# Altium schematic symbol library Resistor - Chip - Uniohm.SchLib: 336 symbols (part 1 of 3)
Pins are listed as number, name and electrical type; pins without a type are passive.

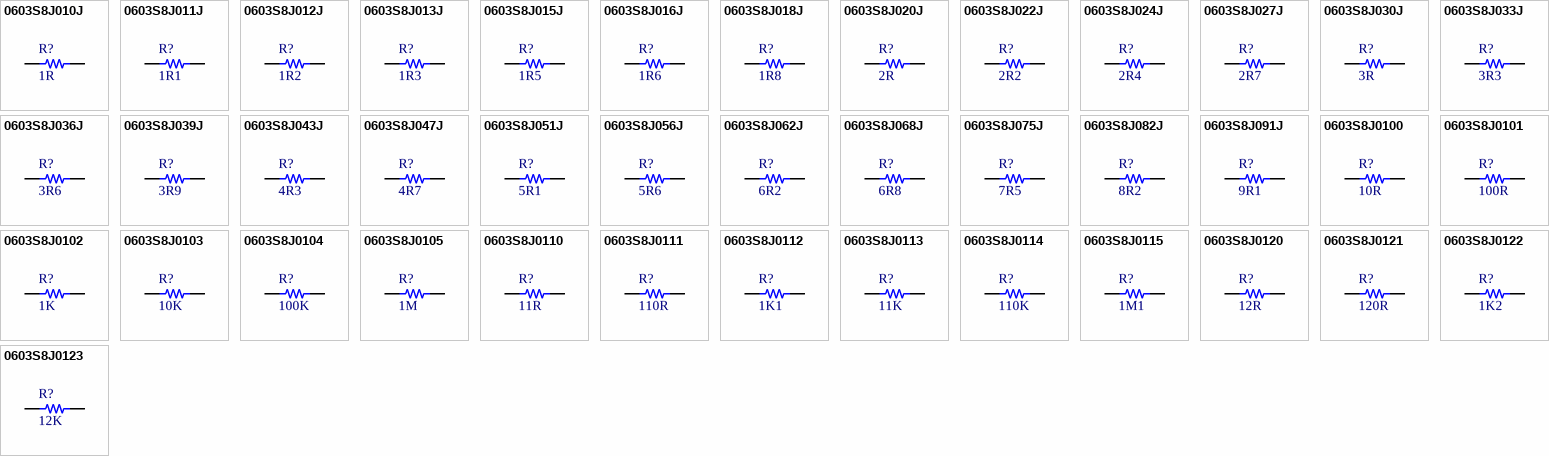
[diagram p0: symbols 0603S8J010J to 0603S8J0123]

## 0603S8J010J
designator R?, comment 1R
RES SMD 1R OHM 5% 1/8W 0603; Part Number: 0603S8J010J; Manufacturer: Uniohm; TemperatureRange: -55C ~ 155C; TemperatureCoefficient: 100ppm/C; PowerRating: 0.125W, 1/8W; Value: 1R; Tolerance: 5%; Price: 0.0089; Device Package: 1608 (0603 Metric)
footprint RES 0603/1608 (Chip Resistor, 2-Leads, Body 1.60x0.80mm, IPC Medium Density)
pins: 1, 2

## 0603S8J011J
designator R?, comment 1R1
RES SMD 1R1 OHM 5% 1/8W 0603; Part Number: 0603S8J011J; Manufacturer: Uniohm; TemperatureRange: -55C ~ 155C; TemperatureCoefficient: 100ppm/C; PowerRating: 0.125W, 1/8W; Value: 1R1; Tolerance: 5%; Price: 0.0089; Device Package: 1608 (0603 Metric)
footprint RES 0603/1608 (Chip Resistor, 2-Leads, Body 1.60x0.80mm, IPC Medium Density)
pins: 1, 2

## 0603S8J012J
designator R?, comment 1R2
RES SMD 1R2 OHM 5% 1/8W 0603; Part Number: 0603S8J012J; Manufacturer: Uniohm; TemperatureRange: -55C ~ 155C; TemperatureCoefficient: 100ppm/C; PowerRating: 0.125W, 1/8W; Value: 1R2; Tolerance: 5%; Price: 0.0089; Device Package: 1608 (0603 Metric)
footprint RES 0603/1608 (Chip Resistor, 2-Leads, Body 1.60x0.80mm, IPC Medium Density)
pins: 1, 2

## 0603S8J013J
designator R?, comment 1R3
RES SMD 1R3 OHM 5% 1/8W 0603; Part Number: 0603S8J013J; Manufacturer: Uniohm; TemperatureRange: -55C ~ 155C; TemperatureCoefficient: 100ppm/C; PowerRating: 0.125W, 1/8W; Value: 1R3; Tolerance: 5%; Price: 0.0089; Device Package: 1608 (0603 Metric)
footprint RES 0603/1608 (Chip Resistor, 2-Leads, Body 1.60x0.80mm, IPC Medium Density)
pins: 1, 2

## 0603S8J015J
designator R?, comment 1R5
RES SMD 1R5 OHM 5% 1/8W 0603; Part Number: 0603S8J015J; Manufacturer: Uniohm; TemperatureRange: -55C ~ 155C; TemperatureCoefficient: 100ppm/C; PowerRating: 0.125W, 1/8W; Value: 1R5; Tolerance: 5%; Price: 0.0089; Device Package: 1608 (0603 Metric)
footprint RES 0603/1608 (Chip Resistor, 2-Leads, Body 1.60x0.80mm, IPC Medium Density)
pins: 1, 2

## 0603S8J016J
designator R?, comment 1R6
RES SMD 1R6 OHM 5% 1/8W 0603; Part Number: 0603S8J016J; Manufacturer: Uniohm; TemperatureRange: -55C ~ 155C; TemperatureCoefficient: 100ppm/C; PowerRating: 0.125W, 1/8W; Value: 1R6; Tolerance: 5%; Price: 0.0089; Device Package: 1608 (0603 Metric)
footprint RES 0603/1608 (Chip Resistor, 2-Leads, Body 1.60x0.80mm, IPC Medium Density)
pins: 1, 2

## 0603S8J018J
designator R?, comment 1R8
RES SMD 1R8 OHM 5% 1/8W 0603; Part Number: 0603S8J018J; Manufacturer: Uniohm; TemperatureRange: -55C ~ 155C; TemperatureCoefficient: 100ppm/C; PowerRating: 0.125W, 1/8W; Value: 1R8; Tolerance: 5%; Price: 0.0089; Device Package: 1608 (0603 Metric)
footprint RES 0603/1608 (Chip Resistor, 2-Leads, Body 1.60x0.80mm, IPC Medium Density)
pins: 1, 2

## 0603S8J020J
designator R?, comment 2R
RES SMD 2R OHM 5% 1/8W 0603; Part Number: 0603S8J020J; Manufacturer: Uniohm; TemperatureRange: -55C ~ 155C; TemperatureCoefficient: 100ppm/C; PowerRating: 0.125W, 1/8W; Value: 2R; Tolerance: 5%; Price: 0.0089; Device Package: 1608 (0603 Metric)
footprint RES 0603/1608 (Chip Resistor, 2-Leads, Body 1.60x0.80mm, IPC Medium Density)
pins: 1, 2

## 0603S8J022J
designator R?, comment 2R2
RES SMD 2R2 OHM 5% 1/8W 0603; Part Number: 0603S8J022J; Manufacturer: Uniohm; TemperatureRange: -55C ~ 155C; TemperatureCoefficient: 100ppm/C; PowerRating: 0.125W, 1/8W; Value: 2R2; Tolerance: 5%; Price: 0.0089; Device Package: 1608 (0603 Metric)
footprint RES 0603/1608 (Chip Resistor, 2-Leads, Body 1.60x0.80mm, IPC Medium Density)
pins: 1, 2

## 0603S8J024J
designator R?, comment 2R4
RES SMD 2R4 OHM 5% 1/8W 0603; Part Number: 0603S8J024J; Manufacturer: Uniohm; TemperatureRange: -55C ~ 155C; TemperatureCoefficient: 100ppm/C; PowerRating: 0.125W, 1/8W; Value: 2R4; Tolerance: 5%; Price: 0.0089; Device Package: 1608 (0603 Metric)
footprint RES 0603/1608 (Chip Resistor, 2-Leads, Body 1.60x0.80mm, IPC Medium Density)
pins: 1, 2

## 0603S8J027J
designator R?, comment 2R7
RES SMD 2R7 OHM 5% 1/8W 0603; Part Number: 0603S8J027J; Manufacturer: Uniohm; TemperatureRange: -55C ~ 155C; TemperatureCoefficient: 100ppm/C; PowerRating: 0.125W, 1/8W; Value: 2R7; Tolerance: 5%; Price: 0.0089; Device Package: 1608 (0603 Metric)
footprint RES 0603/1608 (Chip Resistor, 2-Leads, Body 1.60x0.80mm, IPC Medium Density)
pins: 1, 2

## 0603S8J030J
designator R?, comment 3R
RES SMD 3R OHM 5% 1/8W 0603; Part Number: 0603S8J030J; Manufacturer: Uniohm; TemperatureRange: -55C ~ 155C; TemperatureCoefficient: 100ppm/C; PowerRating: 0.125W, 1/8W; Value: 3R; Tolerance: 5%; Price: 0.0089; Device Package: 1608 (0603 Metric)
footprint RES 0603/1608 (Chip Resistor, 2-Leads, Body 1.60x0.80mm, IPC Medium Density)
pins: 1, 2

## 0603S8J033J
designator R?, comment 3R3
RES SMD 3R3 OHM 5% 1/8W 0603; Part Number: 0603S8J033J; Manufacturer: Uniohm; TemperatureRange: -55C ~ 155C; TemperatureCoefficient: 100ppm/C; PowerRating: 0.125W, 1/8W; Value: 3R3; Tolerance: 5%; Price: 0.0089; Device Package: 1608 (0603 Metric)
footprint RES 0603/1608 (Chip Resistor, 2-Leads, Body 1.60x0.80mm, IPC Medium Density)
pins: 1, 2

## 0603S8J036J
designator R?, comment 3R6
RES SMD 3R6 OHM 5% 1/8W 0603; Part Number: 0603S8J036J; Manufacturer: Uniohm; TemperatureRange: -55C ~ 155C; TemperatureCoefficient: 100ppm/C; PowerRating: 0.125W, 1/8W; Value: 3R6; Tolerance: 5%; Price: 0.0089; Device Package: 1608 (0603 Metric)
footprint RES 0603/1608 (Chip Resistor, 2-Leads, Body 1.60x0.80mm, IPC Medium Density)
pins: 1, 2

## 0603S8J039J
designator R?, comment 3R9
RES SMD 3R9 OHM 5% 1/8W 0603; Part Number: 0603S8J039J; Manufacturer: Uniohm; TemperatureRange: -55C ~ 155C; TemperatureCoefficient: 100ppm/C; PowerRating: 0.125W, 1/8W; Value: 3R9; Tolerance: 5%; Price: 0.0089; Device Package: 1608 (0603 Metric)
footprint RES 0603/1608 (Chip Resistor, 2-Leads, Body 1.60x0.80mm, IPC Medium Density)
pins: 1, 2

## 0603S8J043J
designator R?, comment 4R3
RES SMD 4R3 OHM 5% 1/8W 0603; Part Number: 0603S8J043J; Manufacturer: Uniohm; TemperatureRange: -55C ~ 155C; TemperatureCoefficient: 100ppm/C; PowerRating: 0.125W, 1/8W; Value: 4R3; Tolerance: 5%; Price: 0.0089; Device Package: 1608 (0603 Metric)
footprint RES 0603/1608 (Chip Resistor, 2-Leads, Body 1.60x0.80mm, IPC Medium Density)
pins: 1, 2

## 0603S8J047J
designator R?, comment 4R7
RES SMD 4R7 OHM 5% 1/8W 0603; Part Number: 0603S8J047J; Manufacturer: Uniohm; TemperatureRange: -55C ~ 155C; TemperatureCoefficient: 100ppm/C; PowerRating: 0.125W, 1/8W; Value: 4R7; Tolerance: 5%; Price: 0.0089; Device Package: 1608 (0603 Metric)
footprint RES 0603/1608 (Chip Resistor, 2-Leads, Body 1.60x0.80mm, IPC Medium Density)
pins: 1, 2

## 0603S8J051J
designator R?, comment 5R1
RES SMD 5R1 OHM 5% 1/8W 0603; Part Number: 0603S8J051J; Manufacturer: Uniohm; TemperatureRange: -55C ~ 155C; TemperatureCoefficient: 100ppm/C; PowerRating: 0.125W, 1/8W; Value: 5R1; Tolerance: 5%; Price: 0.0089; Device Package: 1608 (0603 Metric)
footprint RES 0603/1608 (Chip Resistor, 2-Leads, Body 1.60x0.80mm, IPC Medium Density)
pins: 1, 2

## 0603S8J056J
designator R?, comment 5R6
RES SMD 5R6 OHM 5% 1/8W 0603; Part Number: 0603S8J056J; Manufacturer: Uniohm; TemperatureRange: -55C ~ 155C; TemperatureCoefficient: 100ppm/C; PowerRating: 0.125W, 1/8W; Value: 5R6; Tolerance: 5%; Price: 0.0089; Device Package: 1608 (0603 Metric)
footprint RES 0603/1608 (Chip Resistor, 2-Leads, Body 1.60x0.80mm, IPC Medium Density)
pins: 1, 2

## 0603S8J062J
designator R?, comment 6R2
RES SMD 6R2 OHM 5% 1/8W 0603; Part Number: 0603S8J062J; Manufacturer: Uniohm; TemperatureRange: -55C ~ 155C; TemperatureCoefficient: 100ppm/C; PowerRating: 0.125W, 1/8W; Value: 6R2; Tolerance: 5%; Price: 0.0089; Device Package: 1608 (0603 Metric)
footprint RES 0603/1608 (Chip Resistor, 2-Leads, Body 1.60x0.80mm, IPC Medium Density)
pins: 1, 2

## 0603S8J068J
designator R?, comment 6R8
RES SMD 6R8 OHM 5% 1/8W 0603; Part Number: 0603S8J068J; Manufacturer: Uniohm; TemperatureRange: -55C ~ 155C; TemperatureCoefficient: 100ppm/C; PowerRating: 0.125W, 1/8W; Value: 6R8; Tolerance: 5%; Price: 0.0089; Device Package: 1608 (0603 Metric)
footprint RES 0603/1608 (Chip Resistor, 2-Leads, Body 1.60x0.80mm, IPC Medium Density)
pins: 1, 2

## 0603S8J075J
designator R?, comment 7R5
RES SMD 7R5 OHM 5% 1/8W 0603; Part Number: 0603S8J075J; Manufacturer: Uniohm; TemperatureRange: -55C ~ 155C; TemperatureCoefficient: 100ppm/C; PowerRating: 0.125W, 1/8W; Value: 7R5; Tolerance: 5%; Price: 0.0089; Device Package: 1608 (0603 Metric)
footprint RES 0603/1608 (Chip Resistor, 2-Leads, Body 1.60x0.80mm, IPC Medium Density)
pins: 1, 2

## 0603S8J082J
designator R?, comment 8R2
RES SMD 8R2 OHM 5% 1/8W 0603; Part Number: 0603S8J082J; Manufacturer: Uniohm; TemperatureRange: -55C ~ 155C; TemperatureCoefficient: 100ppm/C; PowerRating: 0.125W, 1/8W; Value: 8R2; Tolerance: 5%; Price: 0.0089; Device Package: 1608 (0603 Metric)
footprint RES 0603/1608 (Chip Resistor, 2-Leads, Body 1.60x0.80mm, IPC Medium Density)
pins: 1, 2

## 0603S8J091J
designator R?, comment 9R1
RES SMD 9R1 OHM 5% 1/8W 0603; Part Number: 0603S8J091J; Manufacturer: Uniohm; TemperatureRange: -55C ~ 155C; TemperatureCoefficient: 100ppm/C; PowerRating: 0.125W, 1/8W; Value: 9R1; Tolerance: 5%; Price: 0.0089; Device Package: 1608 (0603 Metric)
footprint RES 0603/1608 (Chip Resistor, 2-Leads, Body 1.60x0.80mm, IPC Medium Density)
pins: 1, 2

## 0603S8J0100
designator R?, comment 10R
RES SMD 10R OHM 5% 1/8W 0603; Part Number: 0603S8J0100; Manufacturer: Uniohm; TemperatureRange: -55C ~ 155C; TemperatureCoefficient: 100ppm/C; PowerRating: 0.125W, 1/8W; Value: 10R; Tolerance: 5%; Price: 0.0089; Device Package: 1608 (0603 Metric)
footprint RES 0603/1608 (Chip Resistor, 2-Leads, Body 1.60x0.80mm, IPC Medium Density)
pins: 1, 2

## 0603S8J0101
designator R?, comment 100R
RES SMD 100R OHM 5% 1/8W 0603; Part Number: 0603S8J0101; Manufacturer: Uniohm; TemperatureRange: -55C ~ 155C; TemperatureCoefficient: 100ppm/C; PowerRating: 0.125W, 1/8W; Value: 100R; Tolerance: 5%; Price: 0.0089; Device Package: 1608 (0603 Metric)
footprint RES 0603/1608 (Chip Resistor, 2-Leads, Body 1.60x0.80mm, IPC Medium Density)
pins: 1, 2

## 0603S8J0102
designator R?, comment 1K
RES SMD 1K OHM 5% 1/8W 0603; Part Number: 0603S8J0102; Manufacturer: Uniohm; TemperatureRange: -55C ~ 155C; TemperatureCoefficient: 100ppm/C; PowerRating: 0.125W, 1/8W; Value: 1K; Tolerance: 5%; Price: 0.0089; Device Package: 1608 (0603 Metric)
footprint RES 0603/1608 (Chip Resistor, 2-Leads, Body 1.60x0.80mm, IPC Medium Density)
pins: 1, 2

## 0603S8J0103
designator R?, comment 10K
RES SMD 10K OHM 5% 1/8W 0603; Part Number: 0603S8J0103; Manufacturer: Uniohm; TemperatureRange: -55C ~ 155C; TemperatureCoefficient: 100ppm/C; PowerRating: 0.125W, 1/8W; Value: 10K; Tolerance: 5%; Price: 0.0089; Device Package: 1608 (0603 Metric)
footprint RES 0603/1608 (Chip Resistor, 2-Leads, Body 1.60x0.80mm, IPC Medium Density)
pins: 1, 2

## 0603S8J0104
designator R?, comment 100K
RES SMD 100K OHM 5% 1/8W 0603; Part Number: 0603S8J0104; Manufacturer: Uniohm; TemperatureRange: -55C ~ 155C; TemperatureCoefficient: 100ppm/C; PowerRating: 0.125W, 1/8W; Value: 100K; Tolerance: 5%; Price: 0.0089; Device Package: 1608 (0603 Metric)
footprint RES 0603/1608 (Chip Resistor, 2-Leads, Body 1.60x0.80mm, IPC Medium Density)
pins: 1, 2

## 0603S8J0105
designator R?, comment 1M
RES SMD 1M OHM 5% 1/8W 0603; Part Number: 0603S8J0105; Manufacturer: Uniohm; TemperatureRange: -55C ~ 155C; TemperatureCoefficient: 100ppm/C; PowerRating: 0.125W, 1/8W; Value: 1M; Tolerance: 5%; Price: 0.0089; Device Package: 1608 (0603 Metric)
footprint RES 0603/1608 (Chip Resistor, 2-Leads, Body 1.60x0.80mm, IPC Medium Density)
pins: 1, 2

## 0603S8J0110
designator R?, comment 11R
RES SMD 11R OHM 5% 1/8W 0603; Part Number: 0603S8J0110; Manufacturer: Uniohm; TemperatureRange: -55C ~ 155C; TemperatureCoefficient: 100ppm/C; PowerRating: 0.125W, 1/8W; Value: 11R; Tolerance: 5%; Price: 0.0089; Device Package: 1608 (0603 Metric)
footprint RES 0603/1608 (Chip Resistor, 2-Leads, Body 1.60x0.80mm, IPC Medium Density)
pins: 1, 2

## 0603S8J0111
designator R?, comment 110R
RES SMD 110R OHM 5% 1/8W 0603; Part Number: 0603S8J0111; Manufacturer: Uniohm; TemperatureRange: -55C ~ 155C; TemperatureCoefficient: 100ppm/C; PowerRating: 0.125W, 1/8W; Value: 110R; Tolerance: 5%; Price: 0.0089; Device Package: 1608 (0603 Metric)
footprint RES 0603/1608 (Chip Resistor, 2-Leads, Body 1.60x0.80mm, IPC Medium Density)
pins: 1, 2

## 0603S8J0112
designator R?, comment 1K1
RES SMD 1K1 OHM 5% 1/8W 0603; Part Number: 0603S8J0112; Manufacturer: Uniohm; TemperatureRange: -55C ~ 155C; TemperatureCoefficient: 100ppm/C; PowerRating: 0.125W, 1/8W; Value: 1K1; Tolerance: 5%; Price: 0.0089; Device Package: 1608 (0603 Metric)
footprint RES 0603/1608 (Chip Resistor, 2-Leads, Body 1.60x0.80mm, IPC Medium Density)
pins: 1, 2

## 0603S8J0113
designator R?, comment 11K
RES SMD 11K OHM 5% 1/8W 0603; Part Number: 0603S8J0113; Manufacturer: Uniohm; TemperatureRange: -55C ~ 155C; TemperatureCoefficient: 100ppm/C; PowerRating: 0.125W, 1/8W; Value: 11K; Tolerance: 5%; Price: 0.0089; Device Package: 1608 (0603 Metric)
footprint RES 0603/1608 (Chip Resistor, 2-Leads, Body 1.60x0.80mm, IPC Medium Density)
pins: 1, 2

## 0603S8J0114
designator R?, comment 110K
RES SMD 110K OHM 5% 1/8W 0603; Part Number: 0603S8J0114; Manufacturer: Uniohm; TemperatureRange: -55C ~ 155C; TemperatureCoefficient: 100ppm/C; PowerRating: 0.125W, 1/8W; Value: 110K; Tolerance: 5%; Price: 0.0089; Device Package: 1608 (0603 Metric)
footprint RES 0603/1608 (Chip Resistor, 2-Leads, Body 1.60x0.80mm, IPC Medium Density)
pins: 1, 2

## 0603S8J0115
designator R?, comment 1M1
RES SMD 1M1 OHM 5% 1/8W 0603; Part Number: 0603S8J0115; Manufacturer: Uniohm; TemperatureRange: -55C ~ 155C; TemperatureCoefficient: 100ppm/C; PowerRating: 0.125W, 1/8W; Value: 1M1; Tolerance: 5%; Price: 0.0089; Device Package: 1608 (0603 Metric)
footprint RES 0603/1608 (Chip Resistor, 2-Leads, Body 1.60x0.80mm, IPC Medium Density)
pins: 1, 2

## 0603S8J0120
designator R?, comment 12R
RES SMD 12R OHM 5% 1/8W 0603; Part Number: 0603S8J0120; Manufacturer: Uniohm; TemperatureRange: -55C ~ 155C; TemperatureCoefficient: 100ppm/C; PowerRating: 0.125W, 1/8W; Value: 12R; Tolerance: 5%; Price: 0.0089; Device Package: 1608 (0603 Metric)
footprint RES 0603/1608 (Chip Resistor, 2-Leads, Body 1.60x0.80mm, IPC Medium Density)
pins: 1, 2

## 0603S8J0121
designator R?, comment 120R
RES SMD 120R OHM 5% 1/8W 0603; Part Number: 0603S8J0121; Manufacturer: Uniohm; TemperatureRange: -55C ~ 155C; TemperatureCoefficient: 100ppm/C; PowerRating: 0.125W, 1/8W; Value: 120R; Tolerance: 5%; Price: 0.0089; Device Package: 1608 (0603 Metric)
footprint RES 0603/1608 (Chip Resistor, 2-Leads, Body 1.60x0.80mm, IPC Medium Density)
pins: 1, 2

## 0603S8J0122
designator R?, comment 1K2
RES SMD 1K2 OHM 5% 1/8W 0603; Part Number: 0603S8J0122; Manufacturer: Uniohm; TemperatureRange: -55C ~ 155C; TemperatureCoefficient: 100ppm/C; PowerRating: 0.125W, 1/8W; Value: 1K2; Tolerance: 5%; Price: 0.0089; Device Package: 1608 (0603 Metric)
footprint RES 0603/1608 (Chip Resistor, 2-Leads, Body 1.60x0.80mm, IPC Medium Density)
pins: 1, 2

## 0603S8J0123
designator R?, comment 12K
RES SMD 12K OHM 5% 1/8W 0603; Part Number: 0603S8J0123; Manufacturer: Uniohm; TemperatureRange: -55C ~ 155C; TemperatureCoefficient: 100ppm/C; PowerRating: 0.125W, 1/8W; Value: 12K; Tolerance: 5%; Price: 0.0089; Device Package: 1608 (0603 Metric)
footprint RES 0603/1608 (Chip Resistor, 2-Leads, Body 1.60x0.80mm, IPC Medium Density)
pins: 1, 2

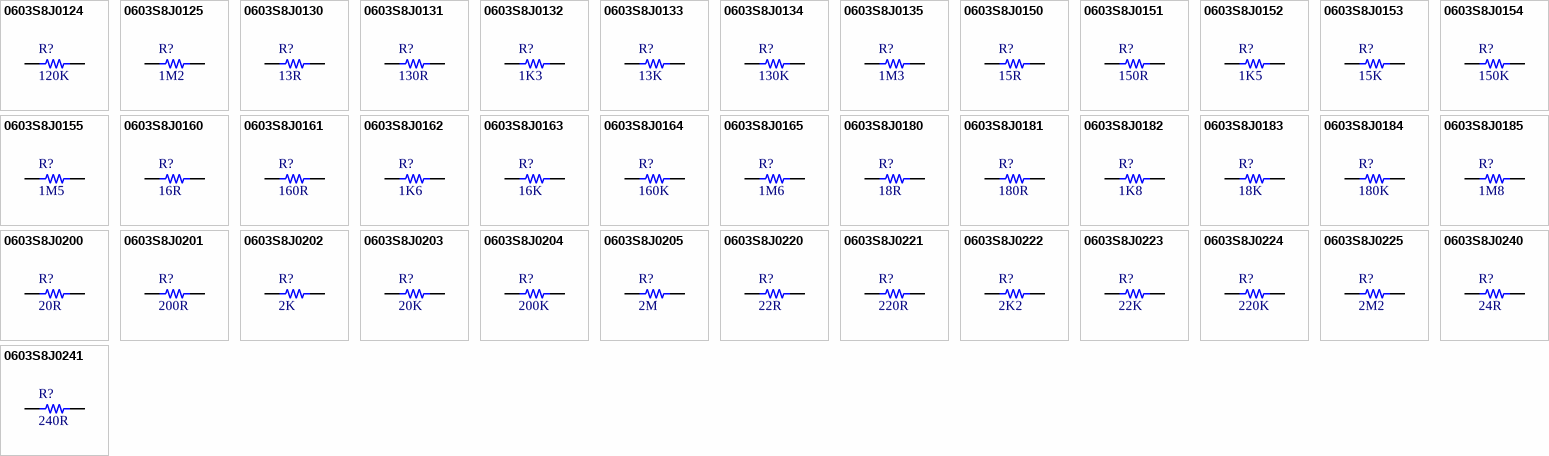
[diagram p1: symbols 0603S8J0124 to 0603S8J0241]

## 0603S8J0124
designator R?, comment 120K
RES SMD 120K OHM 5% 1/8W 0603; Part Number: 0603S8J0124; Manufacturer: Uniohm; TemperatureRange: -55C ~ 155C; TemperatureCoefficient: 100ppm/C; PowerRating: 0.125W, 1/8W; Value: 120K; Tolerance: 5%; Price: 0.0089; Device Package: 1608 (0603 Metric)
footprint RES 0603/1608 (Chip Resistor, 2-Leads, Body 1.60x0.80mm, IPC Medium Density)
pins: 1, 2

## 0603S8J0125
designator R?, comment 1M2
RES SMD 1M2 OHM 5% 1/8W 0603; Part Number: 0603S8J0125; Manufacturer: Uniohm; TemperatureRange: -55C ~ 155C; TemperatureCoefficient: 100ppm/C; PowerRating: 0.125W, 1/8W; Value: 1M2; Tolerance: 5%; Price: 0.0089; Device Package: 1608 (0603 Metric)
footprint RES 0603/1608 (Chip Resistor, 2-Leads, Body 1.60x0.80mm, IPC Medium Density)
pins: 1, 2

## 0603S8J0130
designator R?, comment 13R
RES SMD 13R OHM 5% 1/8W 0603; Part Number: 0603S8J0130; Manufacturer: Uniohm; TemperatureRange: -55C ~ 155C; TemperatureCoefficient: 100ppm/C; PowerRating: 0.125W, 1/8W; Value: 13R; Tolerance: 5%; Price: 0.0089; Device Package: 1608 (0603 Metric)
footprint RES 0603/1608 (Chip Resistor, 2-Leads, Body 1.60x0.80mm, IPC Medium Density)
pins: 1, 2

## 0603S8J0131
designator R?, comment 130R
RES SMD 130R OHM 5% 1/8W 0603; Part Number: 0603S8J0131; Manufacturer: Uniohm; TemperatureRange: -55C ~ 155C; TemperatureCoefficient: 100ppm/C; PowerRating: 0.125W, 1/8W; Value: 130R; Tolerance: 5%; Price: 0.0089; Device Package: 1608 (0603 Metric)
footprint RES 0603/1608 (Chip Resistor, 2-Leads, Body 1.60x0.80mm, IPC Medium Density)
pins: 1, 2

## 0603S8J0132
designator R?, comment 1K3
RES SMD 1K3 OHM 5% 1/8W 0603; Part Number: 0603S8J0132; Manufacturer: Uniohm; TemperatureRange: -55C ~ 155C; TemperatureCoefficient: 100ppm/C; PowerRating: 0.125W, 1/8W; Value: 1K3; Tolerance: 5%; Price: 0.0089; Device Package: 1608 (0603 Metric)
footprint RES 0603/1608 (Chip Resistor, 2-Leads, Body 1.60x0.80mm, IPC Medium Density)
pins: 1, 2

## 0603S8J0133
designator R?, comment 13K
RES SMD 13K OHM 5% 1/8W 0603; Part Number: 0603S8J0133; Manufacturer: Uniohm; TemperatureRange: -55C ~ 155C; TemperatureCoefficient: 100ppm/C; PowerRating: 0.125W, 1/8W; Value: 13K; Tolerance: 5%; Price: 0.0089; Device Package: 1608 (0603 Metric)
footprint RES 0603/1608 (Chip Resistor, 2-Leads, Body 1.60x0.80mm, IPC Medium Density)
pins: 1, 2

## 0603S8J0134
designator R?, comment 130K
RES SMD 130K OHM 5% 1/8W 0603; Part Number: 0603S8J0134; Manufacturer: Uniohm; TemperatureRange: -55C ~ 155C; TemperatureCoefficient: 100ppm/C; PowerRating: 0.125W, 1/8W; Value: 130K; Tolerance: 5%; Price: 0.0089; Device Package: 1608 (0603 Metric)
footprint RES 0603/1608 (Chip Resistor, 2-Leads, Body 1.60x0.80mm, IPC Medium Density)
pins: 1, 2

## 0603S8J0135
designator R?, comment 1M3
RES SMD 1M3 OHM 5% 1/8W 0603; Part Number: 0603S8J0135; Manufacturer: Uniohm; TemperatureRange: -55C ~ 155C; TemperatureCoefficient: 100ppm/C; PowerRating: 0.125W, 1/8W; Value: 1M3; Tolerance: 5%; Price: 0.0089; Device Package: 1608 (0603 Metric)
footprint RES 0603/1608 (Chip Resistor, 2-Leads, Body 1.60x0.80mm, IPC Medium Density)
pins: 1, 2

## 0603S8J0150
designator R?, comment 15R
RES SMD 15R OHM 5% 1/8W 0603; Part Number: 0603S8J0150; Manufacturer: Uniohm; TemperatureRange: -55C ~ 155C; TemperatureCoefficient: 100ppm/C; PowerRating: 0.125W, 1/8W; Value: 15R; Tolerance: 5%; Price: 0.0089; Device Package: 1608 (0603 Metric)
footprint RES 0603/1608 (Chip Resistor, 2-Leads, Body 1.60x0.80mm, IPC Medium Density)
pins: 1, 2

## 0603S8J0151
designator R?, comment 150R
RES SMD 150R OHM 5% 1/8W 0603; Part Number: 0603S8J0151; Manufacturer: Uniohm; TemperatureRange: -55C ~ 155C; TemperatureCoefficient: 100ppm/C; PowerRating: 0.125W, 1/8W; Value: 150R; Tolerance: 5%; Price: 0.0089; Device Package: 1608 (0603 Metric)
footprint RES 0603/1608 (Chip Resistor, 2-Leads, Body 1.60x0.80mm, IPC Medium Density)
pins: 1, 2

## 0603S8J0152
designator R?, comment 1K5
RES SMD 1K5 OHM 5% 1/8W 0603; Part Number: 0603S8J0152; Manufacturer: Uniohm; TemperatureRange: -55C ~ 155C; TemperatureCoefficient: 100ppm/C; PowerRating: 0.125W, 1/8W; Value: 1K5; Tolerance: 5%; Price: 0.0089; Device Package: 1608 (0603 Metric)
footprint RES 0603/1608 (Chip Resistor, 2-Leads, Body 1.60x0.80mm, IPC Medium Density)
pins: 1, 2

## 0603S8J0153
designator R?, comment 15K
RES SMD 15K OHM 5% 1/8W 0603; Part Number: 0603S8J0153; Manufacturer: Uniohm; TemperatureRange: -55C ~ 155C; TemperatureCoefficient: 100ppm/C; PowerRating: 0.125W, 1/8W; Value: 15K; Tolerance: 5%; Price: 0.0089; Device Package: 1608 (0603 Metric)
footprint RES 0603/1608 (Chip Resistor, 2-Leads, Body 1.60x0.80mm, IPC Medium Density)
pins: 1, 2

## 0603S8J0154
designator R?, comment 150K
RES SMD 150K OHM 5% 1/8W 0603; Part Number: 0603S8J0154; Manufacturer: Uniohm; TemperatureRange: -55C ~ 155C; TemperatureCoefficient: 100ppm/C; PowerRating: 0.125W, 1/8W; Value: 150K; Tolerance: 5%; Price: 0.0089; Device Package: 1608 (0603 Metric)
footprint RES 0603/1608 (Chip Resistor, 2-Leads, Body 1.60x0.80mm, IPC Medium Density)
pins: 1, 2

## 0603S8J0155
designator R?, comment 1M5
RES SMD 1M5 OHM 5% 1/8W 0603; Part Number: 0603S8J0155; Manufacturer: Uniohm; TemperatureRange: -55C ~ 155C; TemperatureCoefficient: 100ppm/C; PowerRating: 0.125W, 1/8W; Value: 1M5; Tolerance: 5%; Price: 0.0089; Device Package: 1608 (0603 Metric)
footprint RES 0603/1608 (Chip Resistor, 2-Leads, Body 1.60x0.80mm, IPC Medium Density)
pins: 1, 2

## 0603S8J0160
designator R?, comment 16R
RES SMD 16R OHM 5% 1/8W 0603; Part Number: 0603S8J0160; Manufacturer: Uniohm; TemperatureRange: -55C ~ 155C; TemperatureCoefficient: 100ppm/C; PowerRating: 0.125W, 1/8W; Value: 16R; Tolerance: 5%; Price: 0.0089; Device Package: 1608 (0603 Metric)
footprint RES 0603/1608 (Chip Resistor, 2-Leads, Body 1.60x0.80mm, IPC Medium Density)
pins: 1, 2

## 0603S8J0161
designator R?, comment 160R
RES SMD 160R OHM 5% 1/8W 0603; Part Number: 0603S8J0161; Manufacturer: Uniohm; TemperatureRange: -55C ~ 155C; TemperatureCoefficient: 100ppm/C; PowerRating: 0.125W, 1/8W; Value: 160R; Tolerance: 5%; Price: 0.0089; Device Package: 1608 (0603 Metric)
footprint RES 0603/1608 (Chip Resistor, 2-Leads, Body 1.60x0.80mm, IPC Medium Density)
pins: 1, 2

## 0603S8J0162
designator R?, comment 1K6
RES SMD 1K6 OHM 5% 1/8W 0603; Part Number: 0603S8J0162; Manufacturer: Uniohm; TemperatureRange: -55C ~ 155C; TemperatureCoefficient: 100ppm/C; PowerRating: 0.125W, 1/8W; Value: 1K6; Tolerance: 5%; Price: 0.0089; Device Package: 1608 (0603 Metric)
footprint RES 0603/1608 (Chip Resistor, 2-Leads, Body 1.60x0.80mm, IPC Medium Density)
pins: 1, 2

## 0603S8J0163
designator R?, comment 16K
RES SMD 16K OHM 5% 1/8W 0603; Part Number: 0603S8J0163; Manufacturer: Uniohm; TemperatureRange: -55C ~ 155C; TemperatureCoefficient: 100ppm/C; PowerRating: 0.125W, 1/8W; Value: 16K; Tolerance: 5%; Price: 0.0089; Device Package: 1608 (0603 Metric)
footprint RES 0603/1608 (Chip Resistor, 2-Leads, Body 1.60x0.80mm, IPC Medium Density)
pins: 1, 2

## 0603S8J0164
designator R?, comment 160K
RES SMD 160K OHM 5% 1/8W 0603; Part Number: 0603S8J0164; Manufacturer: Uniohm; TemperatureRange: -55C ~ 155C; TemperatureCoefficient: 100ppm/C; PowerRating: 0.125W, 1/8W; Value: 160K; Tolerance: 5%; Price: 0.0089; Device Package: 1608 (0603 Metric)
footprint RES 0603/1608 (Chip Resistor, 2-Leads, Body 1.60x0.80mm, IPC Medium Density)
pins: 1, 2

## 0603S8J0165
designator R?, comment 1M6
RES SMD 1M6 OHM 5% 1/8W 0603; Part Number: 0603S8J0165; Manufacturer: Uniohm; TemperatureRange: -55C ~ 155C; TemperatureCoefficient: 100ppm/C; PowerRating: 0.125W, 1/8W; Value: 1M6; Tolerance: 5%; Price: 0.0089; Device Package: 1608 (0603 Metric)
footprint RES 0603/1608 (Chip Resistor, 2-Leads, Body 1.60x0.80mm, IPC Medium Density)
pins: 1, 2

## 0603S8J0180
designator R?, comment 18R
RES SMD 18R OHM 5% 1/8W 0603; Part Number: 0603S8J0180; Manufacturer: Uniohm; TemperatureRange: -55C ~ 155C; TemperatureCoefficient: 100ppm/C; PowerRating: 0.125W, 1/8W; Value: 18R; Tolerance: 5%; Price: 0.0089; Device Package: 1608 (0603 Metric)
footprint RES 0603/1608 (Chip Resistor, 2-Leads, Body 1.60x0.80mm, IPC Medium Density)
pins: 1, 2

## 0603S8J0181
designator R?, comment 180R
RES SMD 180R OHM 5% 1/8W 0603; Part Number: 0603S8J0181; Manufacturer: Uniohm; TemperatureRange: -55C ~ 155C; TemperatureCoefficient: 100ppm/C; PowerRating: 0.125W, 1/8W; Value: 180R; Tolerance: 5%; Price: 0.0089; Device Package: 1608 (0603 Metric)
footprint RES 0603/1608 (Chip Resistor, 2-Leads, Body 1.60x0.80mm, IPC Medium Density)
pins: 1, 2

## 0603S8J0182
designator R?, comment 1K8
RES SMD 1K8 OHM 5% 1/8W 0603; Part Number: 0603S8J0182; Manufacturer: Uniohm; TemperatureRange: -55C ~ 155C; TemperatureCoefficient: 100ppm/C; PowerRating: 0.125W, 1/8W; Value: 1K8; Tolerance: 5%; Price: 0.0089; Device Package: 1608 (0603 Metric)
footprint RES 0603/1608 (Chip Resistor, 2-Leads, Body 1.60x0.80mm, IPC Medium Density)
pins: 1, 2

## 0603S8J0183
designator R?, comment 18K
RES SMD 18K OHM 5% 1/8W 0603; Part Number: 0603S8J0183; Manufacturer: Uniohm; TemperatureRange: -55C ~ 155C; TemperatureCoefficient: 100ppm/C; PowerRating: 0.125W, 1/8W; Value: 18K; Tolerance: 5%; Price: 0.0089; Device Package: 1608 (0603 Metric)
footprint RES 0603/1608 (Chip Resistor, 2-Leads, Body 1.60x0.80mm, IPC Medium Density)
pins: 1, 2

## 0603S8J0184
designator R?, comment 180K
RES SMD 180K OHM 5% 1/8W 0603; Part Number: 0603S8J0124; Manufacturer: Uniohm; TemperatureRange: -55C ~ 155C; TemperatureCoefficient: 100ppm/C; PowerRating: 0.125W, 1/8W; Value: 180K; Tolerance: 5%; Price: 0.0089; Device Package: 1608 (0603 Metric)
footprint RES 0603/1608 (Chip Resistor, 2-Leads, Body 1.60x0.80mm, IPC Medium Density)
pins: 1, 2

## 0603S8J0185
designator R?, comment 1M8
RES SMD 1M8 OHM 5% 1/8W 0603; Part Number: 0603S8J0185; Manufacturer: Uniohm; TemperatureRange: -55C ~ 155C; TemperatureCoefficient: 100ppm/C; PowerRating: 0.125W, 1/8W; Value: 1M8; Tolerance: 5%; Price: 0.0089; Device Package: 1608 (0603 Metric)
footprint RES 0603/1608 (Chip Resistor, 2-Leads, Body 1.60x0.80mm, IPC Medium Density)
pins: 1, 2

## 0603S8J0200
designator R?, comment 20R
RES SMD 20R OHM 5% 1/8W 0603; Part Number: 0603S8J0200; Manufacturer: Uniohm; TemperatureRange: -55C ~ 155C; TemperatureCoefficient: 100ppm/C; PowerRating: 0.125W, 1/8W; Value: 20R; Tolerance: 5%; Price: 0.0089; Device Package: 1608 (0603 Metric)
footprint RES 0603/1608 (Chip Resistor, 2-Leads, Body 1.60x0.80mm, IPC Medium Density)
pins: 1, 2

## 0603S8J0201
designator R?, comment 200R
RES SMD 200R OHM 5% 1/8W 0603; Part Number: 0603S8J0201; Manufacturer: Uniohm; TemperatureRange: -55C ~ 155C; TemperatureCoefficient: 100ppm/C; PowerRating: 0.125W, 1/8W; Value: 200R; Tolerance: 5%; Price: 0.0089; Device Package: 1608 (0603 Metric)
footprint RES 0603/1608 (Chip Resistor, 2-Leads, Body 1.60x0.80mm, IPC Medium Density)
pins: 1, 2

## 0603S8J0202
designator R?, comment 2K
RES SMD 2K OHM 5% 1/8W 0603; Part Number: 0603S8J0202; Manufacturer: Uniohm; TemperatureRange: -55C ~ 155C; TemperatureCoefficient: 100ppm/C; PowerRating: 0.125W, 1/8W; Value: 2K; Tolerance: 5%; Price: 0.0089; Device Package: 1608 (0603 Metric)
footprint RES 0603/1608 (Chip Resistor, 2-Leads, Body 1.60x0.80mm, IPC Medium Density)
pins: 1, 2

## 0603S8J0203
designator R?, comment 20K
RES SMD 20K OHM 5% 1/8W 0603; Part Number: 0603S8J0203; Manufacturer: Uniohm; TemperatureRange: -55C ~ 155C; TemperatureCoefficient: 100ppm/C; PowerRating: 0.125W, 1/8W; Value: 20K; Tolerance: 5%; Price: 0.0089; Device Package: 1608 (0603 Metric)
footprint RES 0603/1608 (Chip Resistor, 2-Leads, Body 1.60x0.80mm, IPC Medium Density)
pins: 1, 2

## 0603S8J0204
designator R?, comment 200K
RES SMD 200K OHM 5% 1/8W 0603; Part Number: 0603S8J0204; Manufacturer: Uniohm; TemperatureRange: -55C ~ 155C; TemperatureCoefficient: 100ppm/C; PowerRating: 0.125W, 1/8W; Value: 200K; Tolerance: 5%; Price: 0.0089; Device Package: 1608 (0603 Metric)
footprint RES 0603/1608 (Chip Resistor, 2-Leads, Body 1.60x0.80mm, IPC Medium Density)
pins: 1, 2

## 0603S8J0205
designator R?, comment 2M
RES SMD 2M OHM 5% 1/8W 0603; Part Number: 0603S8J0205; Manufacturer: Uniohm; TemperatureRange: -55C ~ 155C; TemperatureCoefficient: 100ppm/C; PowerRating: 0.125W, 1/8W; Value: 2M; Tolerance: 5%; Price: 0.0089; Device Package: 1608 (0603 Metric)
footprint RES 0603/1608 (Chip Resistor, 2-Leads, Body 1.60x0.80mm, IPC Medium Density)
pins: 1, 2

## 0603S8J0220
designator R?, comment 22R
RES SMD 22R OHM 5% 1/8W 0603; Part Number: 0603S8J0220; Manufacturer: Uniohm; TemperatureRange: -55C ~ 155C; TemperatureCoefficient: 100ppm/C; PowerRating: 0.125W, 1/8W; Value: 22R; Tolerance: 5%; Price: 0.0089; Device Package: 1608 (0603 Metric)
footprint RES 0603/1608 (Chip Resistor, 2-Leads, Body 1.60x0.80mm, IPC Medium Density)
pins: 1, 2

## 0603S8J0221
designator R?, comment 220R
RES SMD 220R OHM 5% 1/8W 0603; Part Number: 0603S8J0221; Manufacturer: Uniohm; TemperatureRange: -55C ~ 155C; TemperatureCoefficient: 100ppm/C; PowerRating: 0.125W, 1/8W; Value: 220R; Tolerance: 5%; Price: 0.0089; Device Package: 1608 (0603 Metric)
footprint RES 0603/1608 (Chip Resistor, 2-Leads, Body 1.60x0.80mm, IPC Medium Density)
pins: 1, 2

## 0603S8J0222
designator R?, comment 2K2
RES SMD 2K2 OHM 5% 1/8W 0603; Part Number: 0603S8J0222; Manufacturer: Uniohm; TemperatureRange: -55C ~ 155C; TemperatureCoefficient: 100ppm/C; PowerRating: 0.125W, 1/8W; Value: 2K2; Tolerance: 5%; Price: 0.0089; Device Package: 1608 (0603 Metric)
footprint RES 0603/1608 (Chip Resistor, 2-Leads, Body 1.60x0.80mm, IPC Medium Density)
pins: 1, 2

## 0603S8J0223
designator R?, comment 22K
RES SMD 22K OHM 5% 1/8W 0603; Part Number: 0603S8J0223; Manufacturer: Uniohm; TemperatureRange: -55C ~ 155C; TemperatureCoefficient: 100ppm/C; PowerRating: 0.125W, 1/8W; Value: 22K; Tolerance: 5%; Price: 0.0089; Device Package: 1608 (0603 Metric)
footprint RES 0603/1608 (Chip Resistor, 2-Leads, Body 1.60x0.80mm, IPC Medium Density)
pins: 1, 2

## 0603S8J0224
designator R?, comment 220K
RES SMD 220K OHM 5% 1/8W 0603; Part Number: 0603S8J0224; Manufacturer: Uniohm; TemperatureRange: -55C ~ 155C; TemperatureCoefficient: 100ppm/C; PowerRating: 0.125W, 1/8W; Value: 220K; Tolerance: 5%; Price: 0.0089; Device Package: 1608 (0603 Metric)
footprint RES 0603/1608 (Chip Resistor, 2-Leads, Body 1.60x0.80mm, IPC Medium Density)
pins: 1, 2

## 0603S8J0225
designator R?, comment 2M2
RES SMD 2M2 OHM 5% 1/8W 0603; Part Number: 0603S8J0225; Manufacturer: Uniohm; TemperatureRange: -55C ~ 155C; TemperatureCoefficient: 100ppm/C; PowerRating: 0.125W, 1/8W; Value: 2M2; Tolerance: 5%; Price: 0.0089; Device Package: 1608 (0603 Metric)
footprint RES 0603/1608 (Chip Resistor, 2-Leads, Body 1.60x0.80mm, IPC Medium Density)
pins: 1, 2

## 0603S8J0240
designator R?, comment 24R
RES SMD 24R OHM 5% 1/8W 0603; Part Number: 0603S8J0240; Manufacturer: Uniohm; TemperatureRange: -55C ~ 155C; TemperatureCoefficient: 100ppm/C; PowerRating: 0.125W, 1/8W; Value: 24R; Tolerance: 5%; Price: 0.0089; Device Package: 1608 (0603 Metric)
footprint RES 0603/1608 (Chip Resistor, 2-Leads, Body 1.60x0.80mm, IPC Medium Density)
pins: 1, 2

## 0603S8J0241
designator R?, comment 240R
RES SMD 240R OHM 5% 1/8W 0603; Part Number: 0603S8J0241; Manufacturer: Uniohm; TemperatureRange: -55C ~ 155C; TemperatureCoefficient: 100ppm/C; PowerRating: 0.125W, 1/8W; Value: 240R; Tolerance: 5%; Price: 0.0089; Device Package: 1608 (0603 Metric)
footprint RES 0603/1608 (Chip Resistor, 2-Leads, Body 1.60x0.80mm, IPC Medium Density)
pins: 1, 2

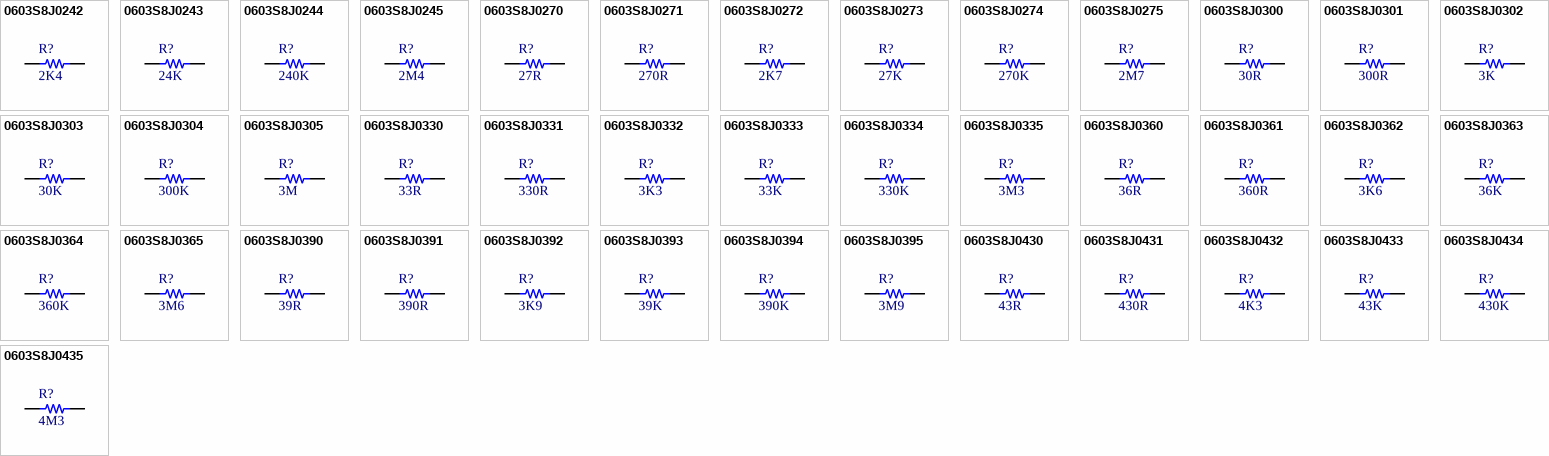
[diagram p2: symbols 0603S8J0242 to 0603S8J0435]

## 0603S8J0242
designator R?, comment 2K4
RES SMD 2K4 OHM 5% 1/8W 0603; Part Number: 0603S8J0242; Manufacturer: Uniohm; TemperatureRange: -55C ~ 155C; TemperatureCoefficient: 100ppm/C; PowerRating: 0.125W, 1/8W; Value: 2K4; Tolerance: 5%; Price: 0.0089; Device Package: 1608 (0603 Metric)
footprint RES 0603/1608 (Chip Resistor, 2-Leads, Body 1.60x0.80mm, IPC Medium Density)
pins: 1, 2

## 0603S8J0243
designator R?, comment 24K
RES SMD 24K OHM 5% 1/8W 0603; Part Number: 0603S8J0243; Manufacturer: Uniohm; TemperatureRange: -55C ~ 155C; TemperatureCoefficient: 100ppm/C; PowerRating: 0.125W, 1/8W; Value: 24K; Tolerance: 5%; Price: 0.0089; Device Package: 1608 (0603 Metric)
footprint RES 0603/1608 (Chip Resistor, 2-Leads, Body 1.60x0.80mm, IPC Medium Density)
pins: 1, 2

## 0603S8J0244
designator R?, comment 240K
RES SMD 240K OHM 5% 1/8W 0603; Part Number: 0603S8J0244; Manufacturer: Uniohm; TemperatureRange: -55C ~ 155C; TemperatureCoefficient: 100ppm/C; PowerRating: 0.125W, 1/8W; Value: 240K; Tolerance: 5%; Price: 0.0089; Device Package: 1608 (0603 Metric)
footprint RES 0603/1608 (Chip Resistor, 2-Leads, Body 1.60x0.80mm, IPC Medium Density)
pins: 1, 2

## 0603S8J0245
designator R?, comment 2M4
RES SMD 2M4 OHM 5% 1/8W 0603; Part Number: 0603S8J0245; Manufacturer: Uniohm; TemperatureRange: -55C ~ 155C; TemperatureCoefficient: 100ppm/C; PowerRating: 0.125W, 1/8W; Value: 2M4; Tolerance: 5%; Price: 0.0089; Device Package: 1608 (0603 Metric)
footprint RES 0603/1608 (Chip Resistor, 2-Leads, Body 1.60x0.80mm, IPC Medium Density)
pins: 1, 2

## 0603S8J0270
designator R?, comment 27R
RES SMD 27R OHM 5% 1/8W 0603; Part Number: 0603S8J0270; Manufacturer: Uniohm; TemperatureRange: -55C ~ 155C; TemperatureCoefficient: 100ppm/C; PowerRating: 0.125W, 1/8W; Value: 27R; Tolerance: 5%; Price: 0.0089; Device Package: 1608 (0603 Metric)
footprint RES 0603/1608 (Chip Resistor, 2-Leads, Body 1.60x0.80mm, IPC Medium Density)
pins: 1, 2

## 0603S8J0271
designator R?, comment 270R
RES SMD 270R OHM 5% 1/8W 0603; Part Number: 0603S8J0271; Manufacturer: Uniohm; TemperatureRange: -55C ~ 155C; TemperatureCoefficient: 100ppm/C; PowerRating: 0.125W, 1/8W; Value: 270R; Tolerance: 5%; Price: 0.0089; Device Package: 1608 (0603 Metric)
footprint RES 0603/1608 (Chip Resistor, 2-Leads, Body 1.60x0.80mm, IPC Medium Density)
pins: 1, 2

## 0603S8J0272
designator R?, comment 2K7
RES SMD 2K7 OHM 5% 1/8W 0603; Part Number: 0603S8J0272; Manufacturer: Uniohm; TemperatureRange: -55C ~ 155C; TemperatureCoefficient: 100ppm/C; PowerRating: 0.125W, 1/8W; Value: 2K7; Tolerance: 5%; Price: 0.0089; Device Package: 1608 (0603 Metric)
footprint RES 0603/1608 (Chip Resistor, 2-Leads, Body 1.60x0.80mm, IPC Medium Density)
pins: 1, 2

## 0603S8J0273
designator R?, comment 27K
RES SMD 27K OHM 5% 1/8W 0603; Part Number: 0603S8J0273; Manufacturer: Uniohm; TemperatureRange: -55C ~ 155C; TemperatureCoefficient: 100ppm/C; PowerRating: 0.125W, 1/8W; Value: 27K; Tolerance: 5%; Price: 0.0089; Device Package: 1608 (0603 Metric)
footprint RES 0603/1608 (Chip Resistor, 2-Leads, Body 1.60x0.80mm, IPC Medium Density)
pins: 1, 2

## 0603S8J0274
designator R?, comment 270K
RES SMD 270K OHM 5% 1/8W 0603; Part Number: 0603S8J0274; Manufacturer: Uniohm; TemperatureRange: -55C ~ 155C; TemperatureCoefficient: 100ppm/C; PowerRating: 0.125W, 1/8W; Value: 270K; Tolerance: 5%; Price: 0.0089; Device Package: 1608 (0603 Metric)
footprint RES 0603/1608 (Chip Resistor, 2-Leads, Body 1.60x0.80mm, IPC Medium Density)
pins: 1, 2

## 0603S8J0275
designator R?, comment 2M7
RES SMD 2M7 OHM 5% 1/8W 0603; Part Number: 0603S8J0275; Manufacturer: Uniohm; TemperatureRange: -55C ~ 155C; TemperatureCoefficient: 100ppm/C; PowerRating: 0.125W, 1/8W; Value: 2M7; Tolerance: 5%; Price: 0.0089; Device Package: 1608 (0603 Metric)
footprint RES 0603/1608 (Chip Resistor, 2-Leads, Body 1.60x0.80mm, IPC Medium Density)
pins: 1, 2

## 0603S8J0300
designator R?, comment 30R
RES SMD 30R OHM 5% 1/8W 0603; Part Number: 0603S8J0300; Manufacturer: Uniohm; TemperatureRange: -55C ~ 155C; TemperatureCoefficient: 100ppm/C; PowerRating: 0.125W, 1/8W; Value: 30R; Tolerance: 5%; Price: 0.0089; Device Package: 1608 (0603 Metric)
footprint RES 0603/1608 (Chip Resistor, 2-Leads, Body 1.60x0.80mm, IPC Medium Density)
pins: 1, 2

## 0603S8J0301
designator R?, comment 300R
RES SMD 300R OHM 5% 1/8W 0603; Part Number: 0603S8J0301; Manufacturer: Uniohm; TemperatureRange: -55C ~ 155C; TemperatureCoefficient: 100ppm/C; PowerRating: 0.125W, 1/8W; Value: 300R; Tolerance: 5%; Price: 0.0089; Device Package: 1608 (0603 Metric)
footprint RES 0603/1608 (Chip Resistor, 2-Leads, Body 1.60x0.80mm, IPC Medium Density)
pins: 1, 2

## 0603S8J0302
designator R?, comment 3K
RES SMD 3K OHM 5% 1/8W 0603; Part Number: 0603S8J0302; Manufacturer: Uniohm; TemperatureRange: -55C ~ 155C; TemperatureCoefficient: 100ppm/C; PowerRating: 0.125W, 1/8W; Value: 3K; Tolerance: 5%; Price: 0.0089; Device Package: 1608 (0603 Metric)
footprint RES 0603/1608 (Chip Resistor, 2-Leads, Body 1.60x0.80mm, IPC Medium Density)
pins: 1, 2

## 0603S8J0303
designator R?, comment 30K
RES SMD 30K OHM 5% 1/8W 0603; Part Number: 0603S8J0303; Manufacturer: Uniohm; TemperatureRange: -55C ~ 155C; TemperatureCoefficient: 100ppm/C; PowerRating: 0.125W, 1/8W; Value: 30K; Tolerance: 5%; Price: 0.0089; Device Package: 1608 (0603 Metric)
footprint RES 0603/1608 (Chip Resistor, 2-Leads, Body 1.60x0.80mm, IPC Medium Density)
pins: 1, 2

## 0603S8J0304
designator R?, comment 300K
RES SMD 300K OHM 5% 1/8W 0603; Part Number: 0603S8J0304; Manufacturer: Uniohm; TemperatureRange: -55C ~ 155C; TemperatureCoefficient: 100ppm/C; PowerRating: 0.125W, 1/8W; Value: 300K; Tolerance: 5%; Price: 0.0089; Device Package: 1608 (0603 Metric)
footprint RES 0603/1608 (Chip Resistor, 2-Leads, Body 1.60x0.80mm, IPC Medium Density)
pins: 1, 2

## 0603S8J0305
designator R?, comment 3M
RES SMD 3M OHM 5% 1/8W 0603; Part Number: 0603S8J0305; Manufacturer: Uniohm; TemperatureRange: -55C ~ 155C; TemperatureCoefficient: 100ppm/C; PowerRating: 0.125W, 1/8W; Value: 3M; Tolerance: 5%; Price: 0.0089; Device Package: 1608 (0603 Metric)
footprint RES 0603/1608 (Chip Resistor, 2-Leads, Body 1.60x0.80mm, IPC Medium Density)
pins: 1, 2

## 0603S8J0330
designator R?, comment 33R
RES SMD 33R OHM 5% 1/8W 0603; Part Number: 0603S8J0330; Manufacturer: Uniohm; TemperatureRange: -55C ~ 155C; TemperatureCoefficient: 100ppm/C; PowerRating: 0.125W, 1/8W; Value: 33R; Tolerance: 5%; Price: 0.0089; Device Package: 1608 (0603 Metric)
footprint RES 0603/1608 (Chip Resistor, 2-Leads, Body 1.60x0.80mm, IPC Medium Density)
pins: 1, 2

## 0603S8J0331
designator R?, comment 330R
RES SMD 330R OHM 5% 1/8W 0603; Part Number: 0603S8J0331; Manufacturer: Uniohm; TemperatureRange: -55C ~ 155C; TemperatureCoefficient: 100ppm/C; PowerRating: 0.125W, 1/8W; Value: 330R; Tolerance: 5%; Price: 0.0089; Device Package: 1608 (0603 Metric)
footprint RES 0603/1608 (Chip Resistor, 2-Leads, Body 1.60x0.80mm, IPC Medium Density)
pins: 1, 2

## 0603S8J0332
designator R?, comment 3K3
RES SMD 3K3 OHM 5% 1/8W 0603; Part Number: 0603S8J0332; Manufacturer: Uniohm; TemperatureRange: -55C ~ 155C; TemperatureCoefficient: 100ppm/C; PowerRating: 0.125W, 1/8W; Value: 3K3; Tolerance: 5%; Price: 0.0089; Device Package: 1608 (0603 Metric)
footprint RES 0603/1608 (Chip Resistor, 2-Leads, Body 1.60x0.80mm, IPC Medium Density)
pins: 1, 2

## 0603S8J0333
designator R?, comment 33K
RES SMD 33K OHM 5% 1/8W 0603; Part Number: 0603S8J0333; Manufacturer: Uniohm; TemperatureRange: -55C ~ 155C; TemperatureCoefficient: 100ppm/C; PowerRating: 0.125W, 1/8W; Value: 33K; Tolerance: 5%; Price: 0.0089; Device Package: 1608 (0603 Metric)
footprint RES 0603/1608 (Chip Resistor, 2-Leads, Body 1.60x0.80mm, IPC Medium Density)
pins: 1, 2

## 0603S8J0334
designator R?, comment 330K
RES SMD 330K OHM 5% 1/8W 0603; Part Number: 0603S8J0334; Manufacturer: Uniohm; TemperatureRange: -55C ~ 155C; TemperatureCoefficient: 100ppm/C; PowerRating: 0.125W, 1/8W; Value: 330K; Tolerance: 5%; Price: 0.0089; Device Package: 1608 (0603 Metric)
footprint RES 0603/1608 (Chip Resistor, 2-Leads, Body 1.60x0.80mm, IPC Medium Density)
pins: 1, 2

## 0603S8J0335
designator R?, comment 3M3
RES SMD 3M3 OHM 5% 1/8W 0603; Part Number: 0603S8J0335; Manufacturer: Uniohm; TemperatureRange: -55C ~ 155C; TemperatureCoefficient: 100ppm/C; PowerRating: 0.125W, 1/8W; Value: 3M3; Tolerance: 5%; Price: 0.0089; Device Package: 1608 (0603 Metric)
footprint RES 0603/1608 (Chip Resistor, 2-Leads, Body 1.60x0.80mm, IPC Medium Density)
pins: 1, 2

## 0603S8J0360
designator R?, comment 36R
RES SMD 36R OHM 5% 1/8W 0603; Part Number: 0603S8J0360; Manufacturer: Uniohm; TemperatureRange: -55C ~ 155C; TemperatureCoefficient: 100ppm/C; PowerRating: 0.125W, 1/8W; Value: 36R; Tolerance: 5%; Price: 0.0089; Device Package: 1608 (0603 Metric)
footprint RES 0603/1608 (Chip Resistor, 2-Leads, Body 1.60x0.80mm, IPC Medium Density)
pins: 1, 2

## 0603S8J0361
designator R?, comment 360R
RES SMD 360R OHM 5% 1/8W 0603; Part Number: 0603S8J0361; Manufacturer: Uniohm; TemperatureRange: -55C ~ 155C; TemperatureCoefficient: 100ppm/C; PowerRating: 0.125W, 1/8W; Value: 360R; Tolerance: 5%; Price: 0.0089; Device Package: 1608 (0603 Metric)
footprint RES 0603/1608 (Chip Resistor, 2-Leads, Body 1.60x0.80mm, IPC Medium Density)
pins: 1, 2

## 0603S8J0362
designator R?, comment 3K6
RES SMD 3K6 OHM 5% 1/8W 0603; Part Number: 0603S8J0362; Manufacturer: Uniohm; TemperatureRange: -55C ~ 155C; TemperatureCoefficient: 100ppm/C; PowerRating: 0.125W, 1/8W; Value: 3K6; Tolerance: 5%; Price: 0.0089; Device Package: 1608 (0603 Metric)
footprint RES 0603/1608 (Chip Resistor, 2-Leads, Body 1.60x0.80mm, IPC Medium Density)
pins: 1, 2

## 0603S8J0363
designator R?, comment 36K
RES SMD 36K OHM 5% 1/8W 0603; Part Number: 0603S8J0363; Manufacturer: Uniohm; TemperatureRange: -55C ~ 155C; TemperatureCoefficient: 100ppm/C; PowerRating: 0.125W, 1/8W; Value: 36K; Tolerance: 5%; Price: 0.0089; Device Package: 1608 (0603 Metric)
footprint RES 0603/1608 (Chip Resistor, 2-Leads, Body 1.60x0.80mm, IPC Medium Density)
pins: 1, 2

## 0603S8J0364
designator R?, comment 360K
RES SMD 360K OHM 5% 1/8W 0603; Part Number: 0603S8J0364; Manufacturer: Uniohm; TemperatureRange: -55C ~ 155C; TemperatureCoefficient: 100ppm/C; PowerRating: 0.125W, 1/8W; Value: 360K; Tolerance: 5%; Price: 0.0089; Device Package: 1608 (0603 Metric)
footprint RES 0603/1608 (Chip Resistor, 2-Leads, Body 1.60x0.80mm, IPC Medium Density)
pins: 1, 2

## 0603S8J0365
designator R?, comment 3M6
RES SMD 3M6 OHM 5% 1/8W 0603; Part Number: 0603S8J0365; Manufacturer: Uniohm; TemperatureRange: -55C ~ 155C; TemperatureCoefficient: 100ppm/C; PowerRating: 0.125W, 1/8W; Value: 3M6; Tolerance: 5%; Price: 0.0089; Device Package: 1608 (0603 Metric)
footprint RES 0603/1608 (Chip Resistor, 2-Leads, Body 1.60x0.80mm, IPC Medium Density)
pins: 1, 2

## 0603S8J0390
designator R?, comment 39R
RES SMD 39R OHM 5% 1/8W 0603; Part Number: 0603S8J0390; Manufacturer: Uniohm; TemperatureRange: -55C ~ 155C; TemperatureCoefficient: 100ppm/C; PowerRating: 0.125W, 1/8W; Value: 39R; Tolerance: 5%; Price: 0.0089; Device Package: 1608 (0603 Metric)
footprint RES 0603/1608 (Chip Resistor, 2-Leads, Body 1.60x0.80mm, IPC Medium Density)
pins: 1, 2

## 0603S8J0391
designator R?, comment 390R
RES SMD 390R OHM 5% 1/8W 0603; Part Number: 0603S8J0391; Manufacturer: Uniohm; TemperatureRange: -55C ~ 155C; TemperatureCoefficient: 100ppm/C; PowerRating: 0.125W, 1/8W; Value: 390R; Tolerance: 5%; Price: 0.0089; Device Package: 1608 (0603 Metric)
footprint RES 0603/1608 (Chip Resistor, 2-Leads, Body 1.60x0.80mm, IPC Medium Density)
pins: 1, 2

## 0603S8J0392
designator R?, comment 3K9
RES SMD 3K9 OHM 5% 1/8W 0603; Part Number: 0603S8J0392; Manufacturer: Uniohm; TemperatureRange: -55C ~ 155C; TemperatureCoefficient: 100ppm/C; PowerRating: 0.125W, 1/8W; Value: 3K9; Tolerance: 5%; Price: 0.0089; Device Package: 1608 (0603 Metric)
footprint RES 0603/1608 (Chip Resistor, 2-Leads, Body 1.60x0.80mm, IPC Medium Density)
pins: 1, 2

## 0603S8J0393
designator R?, comment 39K
RES SMD 39K OHM 5% 1/8W 0603; Part Number: 0603S8J0393; Manufacturer: Uniohm; TemperatureRange: -55C ~ 155C; TemperatureCoefficient: 100ppm/C; PowerRating: 0.125W, 1/8W; Value: 39K; Tolerance: 5%; Price: 0.0089; Device Package: 1608 (0603 Metric)
footprint RES 0603/1608 (Chip Resistor, 2-Leads, Body 1.60x0.80mm, IPC Medium Density)
pins: 1, 2

## 0603S8J0394
designator R?, comment 390K
RES SMD 390K OHM 5% 1/8W 0603; Part Number: 0603S8J0394; Manufacturer: Uniohm; TemperatureRange: -55C ~ 155C; TemperatureCoefficient: 100ppm/C; PowerRating: 0.125W, 1/8W; Value: 390K; Tolerance: 5%; Price: 0.0089; Device Package: 1608 (0603 Metric)
footprint RES 0603/1608 (Chip Resistor, 2-Leads, Body 1.60x0.80mm, IPC Medium Density)
pins: 1, 2

## 0603S8J0395
designator R?, comment 3M9
RES SMD 3M9 OHM 5% 1/8W 0603; Part Number: 0603S8J0395; Manufacturer: Uniohm; TemperatureRange: -55C ~ 155C; TemperatureCoefficient: 100ppm/C; PowerRating: 0.125W, 1/8W; Value: 3M9; Tolerance: 5%; Price: 0.0089; Device Package: 1608 (0603 Metric)
footprint RES 0603/1608 (Chip Resistor, 2-Leads, Body 1.60x0.80mm, IPC Medium Density)
pins: 1, 2

## 0603S8J0430
designator R?, comment 43R
RES SMD 43R OHM 5% 1/8W 0603; Part Number: 0603S8J0430; Manufacturer: Uniohm; TemperatureRange: -55C ~ 155C; TemperatureCoefficient: 100ppm/C; PowerRating: 0.125W, 1/8W; Value: 43R; Tolerance: 5%; Price: 0.0089; Device Package: 1608 (0603 Metric)
footprint RES 0603/1608 (Chip Resistor, 2-Leads, Body 1.60x0.80mm, IPC Medium Density)
pins: 1, 2

## 0603S8J0431
designator R?, comment 430R
RES SMD 430R OHM 5% 1/8W 0603; Part Number: 0603S8J0431; Manufacturer: Uniohm; TemperatureRange: -55C ~ 155C; TemperatureCoefficient: 100ppm/C; PowerRating: 0.125W, 1/8W; Value: 430R; Tolerance: 5%; Price: 0.0089; Device Package: 1608 (0603 Metric)
footprint RES 0603/1608 (Chip Resistor, 2-Leads, Body 1.60x0.80mm, IPC Medium Density)
pins: 1, 2

## 0603S8J0432
designator R?, comment 4K3
RES SMD 4K3 OHM 5% 1/8W 0603; Part Number: 0603S8J0432; Manufacturer: Uniohm; TemperatureRange: -55C ~ 155C; TemperatureCoefficient: 100ppm/C; PowerRating: 0.125W, 1/8W; Value: 4K3; Tolerance: 5%; Price: 0.0089; Device Package: 1608 (0603 Metric)
footprint RES 0603/1608 (Chip Resistor, 2-Leads, Body 1.60x0.80mm, IPC Medium Density)
pins: 1, 2

## 0603S8J0433
designator R?, comment 43K
RES SMD 43K OHM 5% 1/8W 0603; Part Number: 0603S8J0433; Manufacturer: Uniohm; TemperatureRange: -55C ~ 155C; TemperatureCoefficient: 100ppm/C; PowerRating: 0.125W, 1/8W; Value: 43K; Tolerance: 5%; Price: 0.0089; Device Package: 1608 (0603 Metric)
footprint RES 0603/1608 (Chip Resistor, 2-Leads, Body 1.60x0.80mm, IPC Medium Density)
pins: 1, 2

## 0603S8J0434
designator R?, comment 430K
RES SMD 430K OHM 5% 1/8W 0603; Part Number: 0603S8J0434; Manufacturer: Uniohm; TemperatureRange: -55C ~ 155C; TemperatureCoefficient: 100ppm/C; PowerRating: 0.125W, 1/8W; Value: 430K; Tolerance: 5%; Price: 0.0089; Device Package: 1608 (0603 Metric)
footprint RES 0603/1608 (Chip Resistor, 2-Leads, Body 1.60x0.80mm, IPC Medium Density)
pins: 1, 2

## 0603S8J0435
designator R?, comment 4M3
RES SMD 4M3 OHM 5% 1/8W 0603; Part Number: 0603S8J0435; Manufacturer: Uniohm; TemperatureRange: -55C ~ 155C; TemperatureCoefficient: 100ppm/C; PowerRating: 0.125W, 1/8W; Value: 4M3; Tolerance: 5%; Price: 0.0089; Device Package: 1608 (0603 Metric)
footprint RES 0603/1608 (Chip Resistor, 2-Leads, Body 1.60x0.80mm, IPC Medium Density)
pins: 1, 2

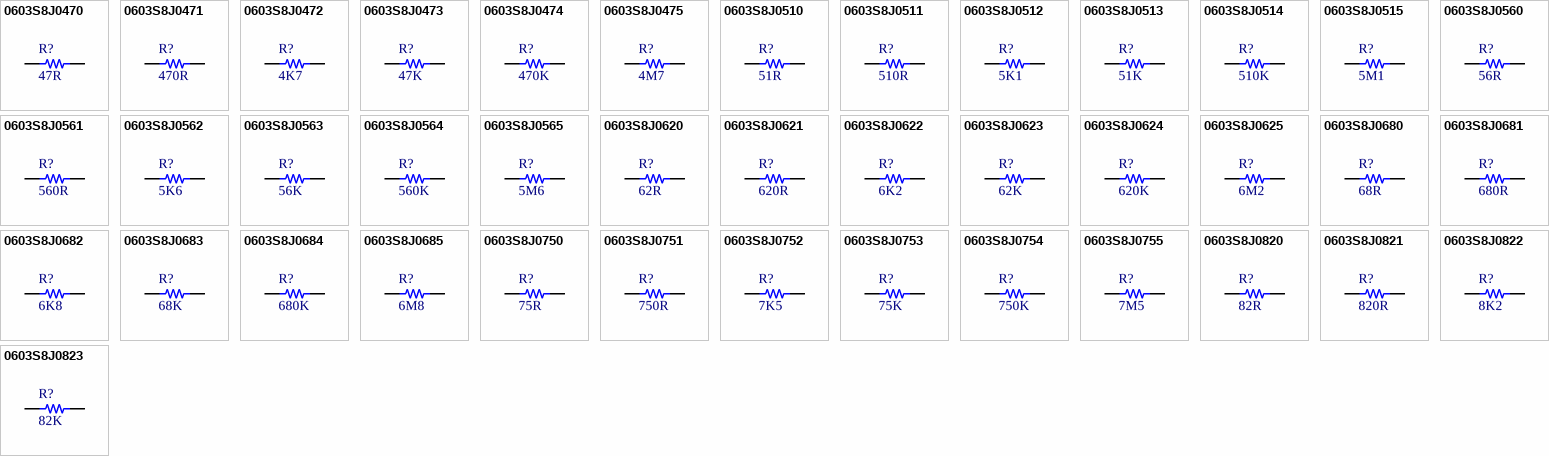
[diagram p3: symbols 0603S8J0470 to 0603S8J0823]

## 0603S8J0470
designator R?, comment 47R
RES SMD 47R OHM 5% 1/8W 0603; Part Number: 0603S8J0470; Manufacturer: Uniohm; TemperatureRange: -55C ~ 155C; TemperatureCoefficient: 100ppm/C; PowerRating: 0.125W, 1/8W; Value: 47R; Tolerance: 5%; Price: 0.0089; Device Package: 1608 (0603 Metric)
footprint RES 0603/1608 (Chip Resistor, 2-Leads, Body 1.60x0.80mm, IPC Medium Density)
pins: 1, 2

## 0603S8J0471
designator R?, comment 470R
RES SMD 470R OHM 5% 1/8W 0603; Part Number: 0603S8J0471; Manufacturer: Uniohm; TemperatureRange: -55C ~ 155C; TemperatureCoefficient: 100ppm/C; PowerRating: 0.125W, 1/8W; Value: 470R; Tolerance: 5%; Price: 0.0089; Device Package: 1608 (0603 Metric)
footprint RES 0603/1608 (Chip Resistor, 2-Leads, Body 1.60x0.80mm, IPC Medium Density)
pins: 1, 2

## 0603S8J0472
designator R?, comment 4K7
RES SMD 4K7 OHM 5% 1/8W 0603; Part Number: 0603S8J0472; Manufacturer: Uniohm; TemperatureRange: -55C ~ 155C; TemperatureCoefficient: 100ppm/C; PowerRating: 0.125W, 1/8W; Value: 4K7; Tolerance: 5%; Price: 0.0089; Device Package: 1608 (0603 Metric)
footprint RES 0603/1608 (Chip Resistor, 2-Leads, Body 1.60x0.80mm, IPC Medium Density)
pins: 1, 2

## 0603S8J0473
designator R?, comment 47K
RES SMD 47K OHM 5% 1/8W 0603; Part Number: 0603S8J0473; Manufacturer: Uniohm; TemperatureRange: -55C ~ 155C; TemperatureCoefficient: 100ppm/C; PowerRating: 0.125W, 1/8W; Value: 47K; Tolerance: 5%; Price: 0.0089; Device Package: 1608 (0603 Metric)
footprint RES 0603/1608 (Chip Resistor, 2-Leads, Body 1.60x0.80mm, IPC Medium Density)
pins: 1, 2

## 0603S8J0474
designator R?, comment 470K
RES SMD 470K OHM 5% 1/8W 0603; Part Number: 0603S8J0474; Manufacturer: Uniohm; TemperatureRange: -55C ~ 155C; TemperatureCoefficient: 100ppm/C; PowerRating: 0.125W, 1/8W; Value: 470K; Tolerance: 5%; Price: 0.0089; Device Package: 1608 (0603 Metric)
footprint RES 0603/1608 (Chip Resistor, 2-Leads, Body 1.60x0.80mm, IPC Medium Density)
pins: 1, 2

## 0603S8J0475
designator R?, comment 4M7
RES SMD 4M7 OHM 5% 1/8W 0603; Part Number: 0603S8J0475; Manufacturer: Uniohm; TemperatureRange: -55C ~ 155C; TemperatureCoefficient: 100ppm/C; PowerRating: 0.125W, 1/8W; Value: 4M7; Tolerance: 5%; Price: 0.0089; Device Package: 1608 (0603 Metric)
footprint RES 0603/1608 (Chip Resistor, 2-Leads, Body 1.60x0.80mm, IPC Medium Density)
pins: 1, 2

## 0603S8J0510
designator R?, comment 51R
RES SMD 51R OHM 5% 1/8W 0603; Part Number: 0603S8J0510; Manufacturer: Uniohm; TemperatureRange: -55C ~ 155C; TemperatureCoefficient: 100ppm/C; PowerRating: 0.125W, 1/8W; Value: 51R; Tolerance: 5%; Price: 0.0089; Device Package: 1608 (0603 Metric)
footprint RES 0603/1608 (Chip Resistor, 2-Leads, Body 1.60x0.80mm, IPC Medium Density)
pins: 1, 2